# Altium integrated library RR0816P-2490-D-39A.IntLib: 1 symbol
Pins are listed as number, name and electrical type; pins without a type are passive.

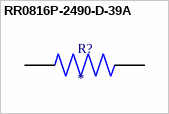
[diagram p0: symbol RR0816P-2490-D-39A]

## RR0816P-2490-D-39A
designator R?
RES SMD 249 OHM 0.5% 1/16W 0603; MP: RR0816P-2490-D-39A; Package: None; Price: None; Value: *; Availability: Unavailable
footprint RESC1608X50N
pins: 1, 2